# EAGLE library part SIMBRD22 (library con-amp_edit)
AMP connector
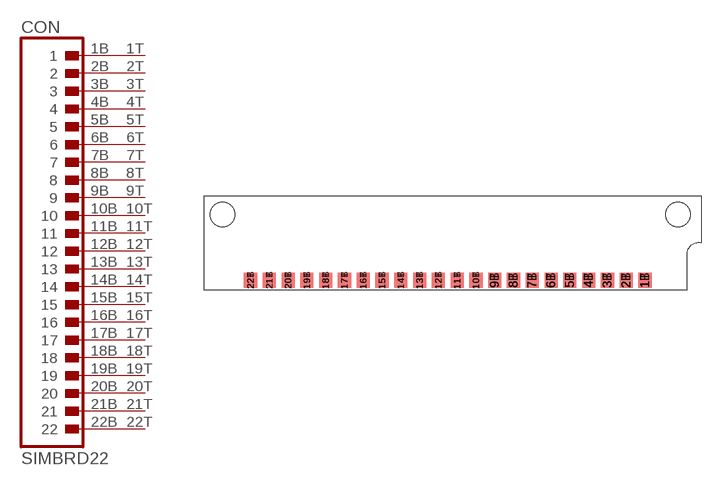
[diagram p70: symbol with the pads of SIMBRD22; footprint SIMBRD22]

Designator prefix CON

## SIMBRD22  [SIMBRD22]
1B  1  pas
1T  A1  pas
2B  2  pas
2T  A2  pas
3B  3  pas
3T  A3  pas
4B  4  pas
4T  A4  pas
5B  5  pas
5T  A5  pas
6B  6  pas
6T  A6  pas
7B  7  pas
7T  A7  pas
8B  8  pas
8T  A8  pas
9B  9  pas
9T  A9  pas
10B  10  pas
10T  A10  pas
11B  11  pas
11T  A11  pas
12B  12  pas
12T  A12  pas
13B  13  pas
13T  A13  pas
14B  14  pas
14T  A14  pas
15B  15  pas
15T  A15  pas
16B  16  pas
16T  A16  pas
17B  17  pas
17T  A17  pas
18B  18  pas
18T  A18  pas
19B  19  pas
19T  A19  pas
20B  20  pas
20T  A20  pas
21B  21  pas
21T  A21  pas
22B  22  pas
22T  A22  pas

## Footprint SIMBRD22 (pad centres in mm)
SIMM Modul
smd 1.778 x 2.032 bottom: 1B 26.67,-6.35; 2B 24.13,-6.35; 3B 21.59,-6.35; 4B 19.05,-6.35; 5B 16.51,-6.35; 6B 13.97,-6.35; 7B 11.43,-6.35; 8B 8.89,-6.35; 9B 6.35,-6.35; 10B 3.81,-6.35; 11B 1.27,-6.35; 12B -1.27,-6.35; 13B -3.81,-6.35; 14B -6.35,-6.35; 15B -8.89,-6.35; 16B -11.43,-6.35; 17B -13.97,-6.35; 18B -16.51,-6.35; 19B -19.05,-6.35; 20B -21.59,-6.35; 21B -24.13,-6.35; 22B -26.67,-6.35
smd 1.778 x 2.032: 1T 26.67,-6.35; 2T 24.13,-6.35; 3T 21.59,-6.35; 4T 19.05,-6.35; 5T 16.51,-6.35; 6T 13.97,-6.35; 7T 11.43,-6.35; 8T 8.89,-6.35; 9T 6.35,-6.35; 10T 3.81,-6.35; 11T 1.27,-6.35; 12T -1.27,-6.35; 13T -3.81,-6.35; 14T -6.35,-6.35; 15T -8.89,-6.35; 16T -11.43,-6.35; 17T -13.97,-6.35; 18T -16.51,-6.35; 19T -19.05,-6.35; 20T -21.59,-6.35; 21T -24.13,-6.35; 22T -26.67,-6.35
hole 3.302 at -30.48,2.54
hole 3.302 at 31.115,2.54